# Altium footprint library DWM3001C.PcbLib: 1 footprints
Each footprint in its own frame and in the unit in brackets; x right, y up, seen from the top. Pads: shape width x height; smd on the part's side, far side on the other; paste and mask are expansions set on the pad; w line width, h text height; cw(c..) or ccw(c..) is an arc to the next point about the centre after c.
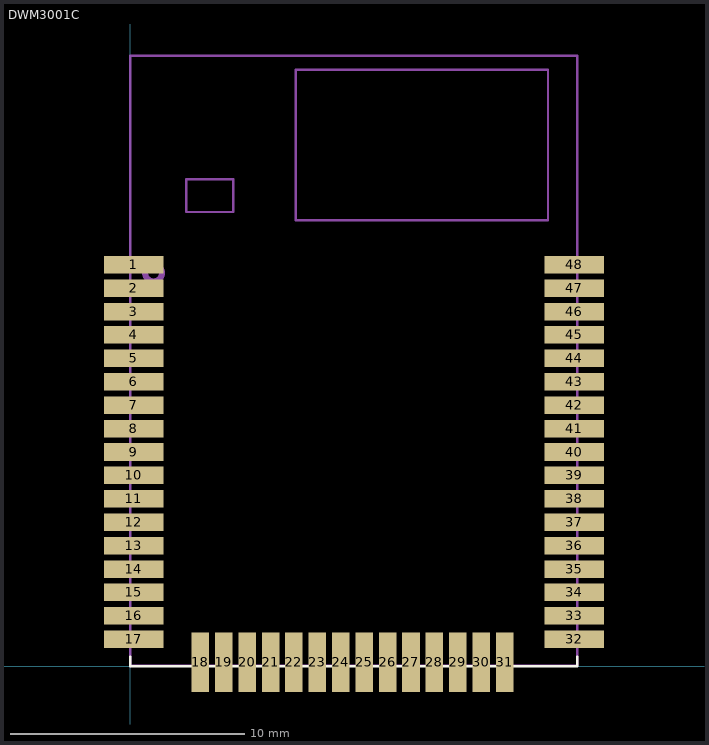
[diagram p0: the footprint, top view; thin cyan lines are the x and y axes]

## DWM3001C [mm] "DWM3001C"
height 4
pads (48):
  rect 2.54x0.75 smd: 1(0.16,17.15) 2(0.16,16.15) 3(0.16,15.15) 4(0.16,14.15) 5(0.16,13.15) 6(0.16,12.15) 7(0.16,11.15) 8(0.16,10.15) 9(0.16,9.15) 10(0.16,8.15) 11(0.16,7.15) 12(0.16,6.15) 13(0.16,5.15) 14(0.16,4.15) 15(0.16,3.15) 16(0.16,2.15) 17(0.16,1.15) 32(18.97,1.15) 33(18.97,2.15) 34(18.97,3.15) 35(18.97,4.15) 36(18.97,5.15) 37(18.97,6.15) 38(18.97,7.15) 39(18.97,8.15) 40(18.97,9.15) 41(18.97,10.15) 42(18.97,11.15) 43(18.97,12.15) 44(18.97,13.15) 45(18.97,14.15) 46(18.97,15.15) 47(18.97,16.15) 48(18.97,17.15)
  rect 0.75x2.54 smd: 18(3,0.16) 19(4,0.16) 20(5,0.16) 21(6,0.16) 22(7,0.16) 23(8,0.16) 24(9,0.16) 25(10,0.16) 26(11,0.16) 27(12,0.16) 28(13,0.16) 29(14,0.16) 30(15,0.16) 31(16,0.16)
Top Overlay:
  lines w0.1: 0,0.4 0,0 19.1,0 19.1,0.4
Mechanical 1:
  lines w0.1: 0,0 0,26.075 19.1,26.075 19.1,0.025 0,0.025 0,0.9
Mechanical 29:
  circle w0.254: c1,16.8 r0.361
  lines w0.1: 0,0.025 0,26.075 19.1,26.075 19.1,0.025 0,0.025 ; 2.4,19.4 2.4,20.8 4.4,20.8 4.4,19.4 2.4,19.4 ; 7.075,19.05 7.075,25.475 17.85,25.475 17.85,19.05 7.075,19.05
  text ".Designator" at 5.6,11.6 h0.8
3D body "Ryan_sucks_balls.step": height 4, standoff 0.02, extent 0.004,-0.002 19.129,26.123